# Altium schematic symbol library BQ76922RSNR.SchLib: 1 symbol
Pins are listed as number, name and electrical type; pins without a type are passive.

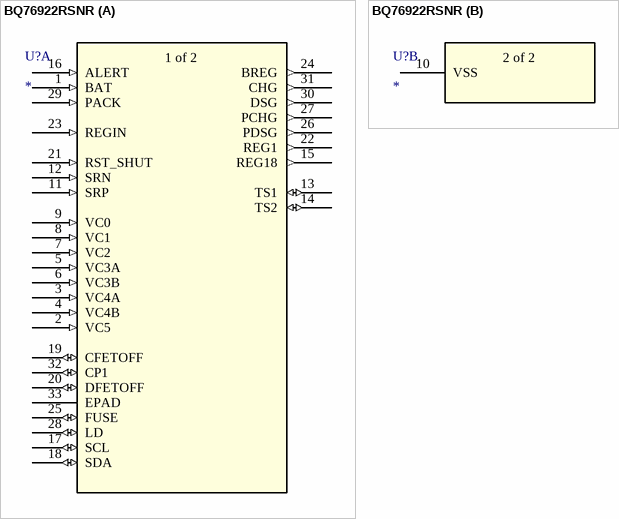
[diagram p0: symbol BQ76922RSNR]

## BQ76922RSNR
designator U?
No Description Available; Mfr_Name: Texas Instruments; RefDes: RefDes; Type: Type
footprint QFN32_RSN_TEX
part A pins: 1 BAT (in), 2 VC5 (in), 3 VC4A (in), 4 VC4B (in), 5 VC3A (in), 6 VC3B (in), 7 VC2 (in), 8 VC1 (in), 9 VC0 (in), 11 SRP (in), 12 SRN (in), 13 TS1 (io), 14 TS2 (io), 15 REG18 (out), 16 ALERT (in), 17 SCL (io), 18 SDA (io), 19 CFETOFF (io), 20 DFETOFF (io), 21 RST_SHUT (in), 22 REG1 (out), 23 REGIN (in), 24 BREG (out), 25 FUSE (io), 26 PDSG (out), 27 PCHG (out), 28 LD (io), 29 PACK (in), 30 DSG (out), 31 CHG (out), 32 CP1 (io), 33 EPAD
part B pins: 10 VSS (power)
part A text: 1 of 2
part B text: 2 of 2